# Altium schematic symbol library TMP102.SchLib: 1 symbol
Pins are listed as number, name and electrical type; pins without a type are passive.

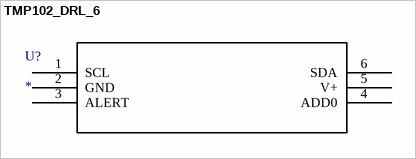
[diagram p0: symbol TMP102_DRL_6]

## TMP102_DRL_6
designator U?
Imported; Manufacturer_Part_Number: tmp102_drl_6; GENERIC_PART_NUMBER: TMP102; Vendor: Texas Instruments; PACKAGE_DESIGNATOR: DRL; PIN_COUNT: 6; FAMILY_NAME: TEMPERATURE SENSOR; INDUSTRY_STD_PKG_TYPE: SOT; Datasheet URL: http://www.ti.com/lit/gpn/TMP102; Manufacturer: Texas Instruments; RefDes: RefDes; Type: DEV; Value: Value
footprint DRL6
pins: 1 SCL, 2 GND (power), 3 ALERT, 4 ADD0, 5 V+ (power), 6 SDA